# Altium schematic symbol library BD125-10-A-0305-0580-L-B.SchLib: 1 symbol
Pins are listed as number, name and electrical type; pins without a type are passive.

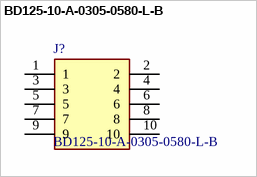
[diagram p0: symbol BD125-10-A-0305-0580-L-B]

## BD125-10-A-0305-0580-L-B
designator J?
Board to Board & Mezzanine Connectors 10 Contact 1.27mm keyed Pin hdr SMT Vert GF; Manufacturer_Name: GCT (GLOBAL CONNECTOR TECHNOLOGY); Geometry.Height: 6.37mm; Mouser Part Number: 640-BD12510A305580LB; Mouser Price/Stock: https://www.mouser.co.uk/ProductDetail/GCT/BD125-10-A-0305-0580-L-B?qs=amGC7iS6iy%252BPUE%252B5wV8wFA%3D%3D; Manufacturer_Part_Number: BD125-10-A-0305-0580-L-B; Datasheet Link: https://gct.co/connector/bd125
footprint BD12510A03050580LB
pins: 1, 2, 3, 4, 5, 6, 7, 8, 9, 10